# EAGLE library part TI-INA226 (library FaBo-Mems)
Texus Instruments INA226(Power)
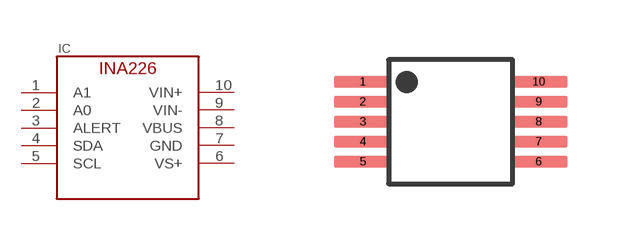
[diagram p2: symbol with the pads of TI-INA226; footprint TI-INA226]

Designator prefix IC

## TI-INA226  [TI-INA226]
1  A1
2  A0
3  ALERT
4  SDA
5  SCL
6  VS+
7  GND
8  VBUS
9  VIN-
10  VIN+

## Footprint TI-INA226 (pad centres in mm)
smd 1.45 x 0.3: 1 -2.2,1; 2 -2.2,0.5; 3 -2.2,0; 4 -2.2,-0.5; 5 -2.2,-1; 6 2.2,-1; 7 2.2,-0.5; 8 2.2,0; 9 2.2,0.5; 10 2.2,1